# EAGLE library part MAXREFDES117 (library lib_stankus)
MAXREFDES117 Farnell #2627165
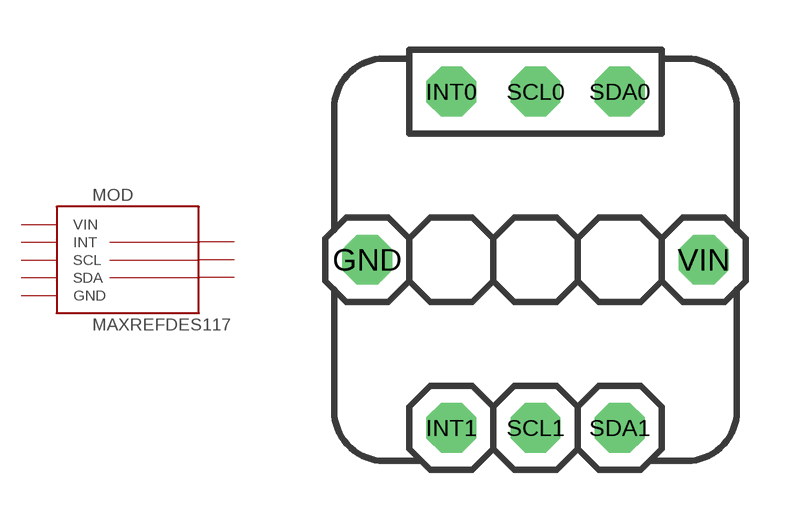
[diagram p109: symbol with the pads of MAXREFDES117; footprint MAXREFDES117]

Designator prefix MOD

## MAXREFDES117  [MAXREFDES117]
GND  GND  pas
INT0  INT  pas
INT1  INT  pas
SCL0  SCL  pas
SCL1  SCL  pas
SDA0  SDA  pas
SDA1  SDA  pas
VIN  VIN  pas

## Footprint MAXREFDES117 (pad centres in mm)
MAXREFDES117
drill 1 octagon: GND -5.08,0; INT0 -2.54,5.08; INT1 -2.54,-5.08; SCL0 0,5.08; SCL1 0,-5.08; SDA0 2.54,5.08; SDA1 2.54,-5.08; VIN 5.08,0